# Altium footprint library USB_C.PcbLib: 1 footprints
Each footprint in its own frame and in the unit in brackets; x right, y up, seen from the top. Pads: shape width x height; smd on the part's side, far side on the other; paste and mask are expansions set on the pad; w line width, h text height; cw(c..) or ccw(c..) is an arc to the next point about the centre after c.
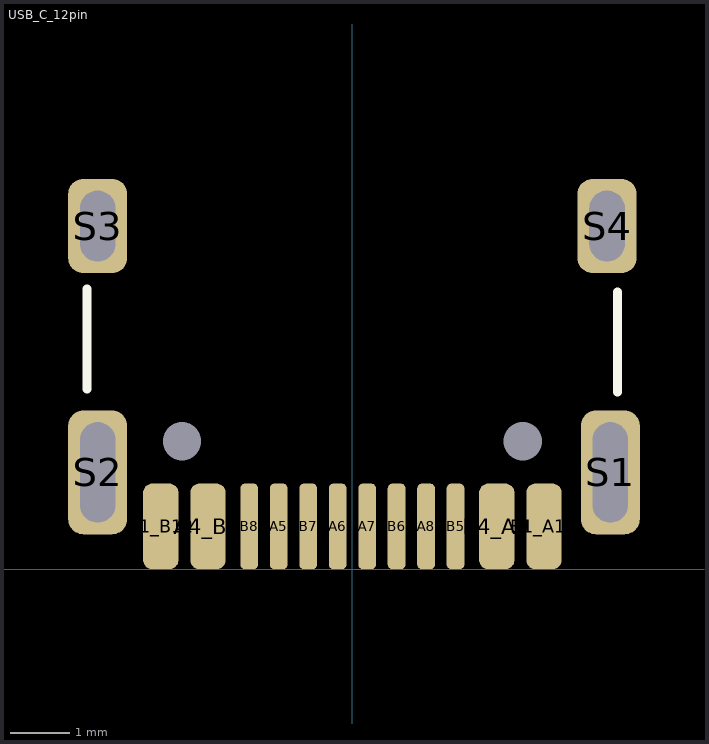
[diagram p0: the footprint, top view; thin cyan lines are the x and y axes]

## USB_C_12pin [mm]
pads (18):
  round 0 hole 0.65 unplated paste+0 mask+0: 57(-2.89,2.17) 57(2.89,2.17)
  rrect50% 0.6x1.45 smd: A1_B12(-3.25,0.725) A4_B9(-2.45,0.725) B1_A12(3.25,0.725) B4_A9(2.45,0.725)
  rrect50% 0.3x1.45 smd: A5(-1.25,0.725) A6(-0.25,0.725) A7(0.25,0.725) A8(1.25,0.725) B5(1.75,0.725) B6(0.75,0.725) B7(-0.75,0.725) B8(-1.75,0.725)
  rrect50% 1x2.1 hole 0.6 slot 1.7 at 90 deg: S1(4.375,1.64) S2(-4.32,1.64)
  rrect50% 1x1.6 hole 0.6 slot 1.2 at 90 deg: S3(-4.32,5.82) S4(4.32,5.82)
Top Overlay:
  lines w0.15: -4.5,3.05 -4.5,4.75 ; 4.5,3 4.5,4.7
3D body "USB Type C Port (SMD Type).STEP": height 3.2, standoff -1, extent -4.47,0.525 4.47,8.425